# Altium footprint library Molex Pico SPOX 5 POS.PcbLib: 1 footprints
Each footprint in its own frame and in the unit in brackets; x right, y up, seen from the top. Pads: shape width x height; smd on the part's side, far side on the other; paste and mask are expansions set on the pad; w line width, h text height; cw(c..) or ccw(c..) is an arc to the next point about the centre after c.
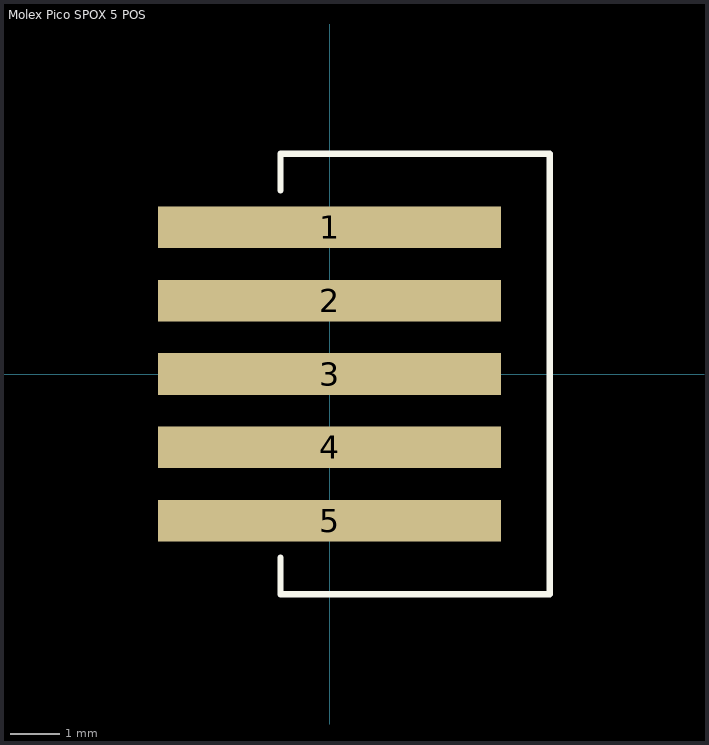
[diagram p0: the footprint, top view; thin cyan lines are the x and y axes]

## Molex Pico SPOX 5 POS [mm]
pads (5):
  rect 7x0.85 smd: 1(0,3) 2(0,1.5) 3(0,0) 4(0,-1.5) 5(0,-3)
Top Overlay:
  lines w0.127: -1,-3.75 -1,-4.5 4.5,-4.5 4.5,4.5 -1,4.5 -1,3.75
3D body "874370543.stp": height 5.76, standoff 0.01, extent -1.8,-4.4 4.2,4.4